# EAGLE library part CURRENT-ACS712ELCTR-20A-T(SOIC8-5X4) (library Seeed-OPL-sensor)
314090002
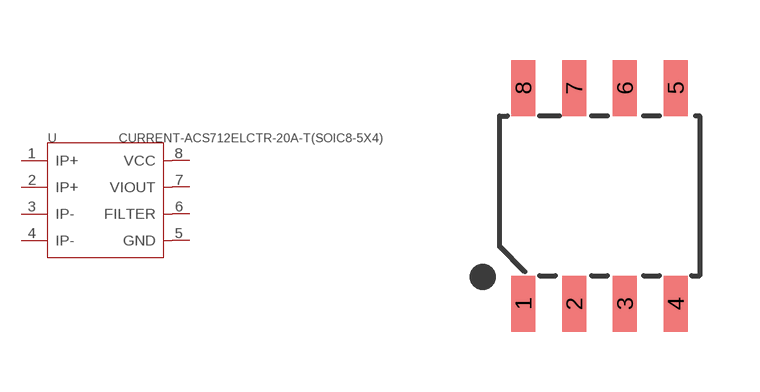
[diagram p7: symbol with the pads of SOIC8-1.27-5X4MM; footprint SOIC8-1.27-5X4MM]

Designator prefix U

## CURRENT-ACS712ELCTR-20A-T(SOIC8-5X4) (MPN: ACS712ELCTR-20A-T; VALUE: ACS712ELCTR-20A-T)  [SOIC8-1.27-5X4MM]
1  IP+
2  IP+
3  IP-
4  IP-
5  GND
6  FILTER
7  VIOUT
8  VCC

## Footprint SOIC8-1.27-5X4MM (pad centres in mm)
smd 0.6 x 1.4: 1 -1.905,-2.7; 2 -0.635,-2.7; 3 0.635,-2.7; 4 1.905,-2.7; 5 1.905,2.7; 6 0.635,2.7; 7 -0.635,2.7; 8 -1.905,2.7